# Altium integrated library FT601Q-B-T.IntLib: 1 symbol
Pins are listed as number, name and electrical type; pins without a type are passive.

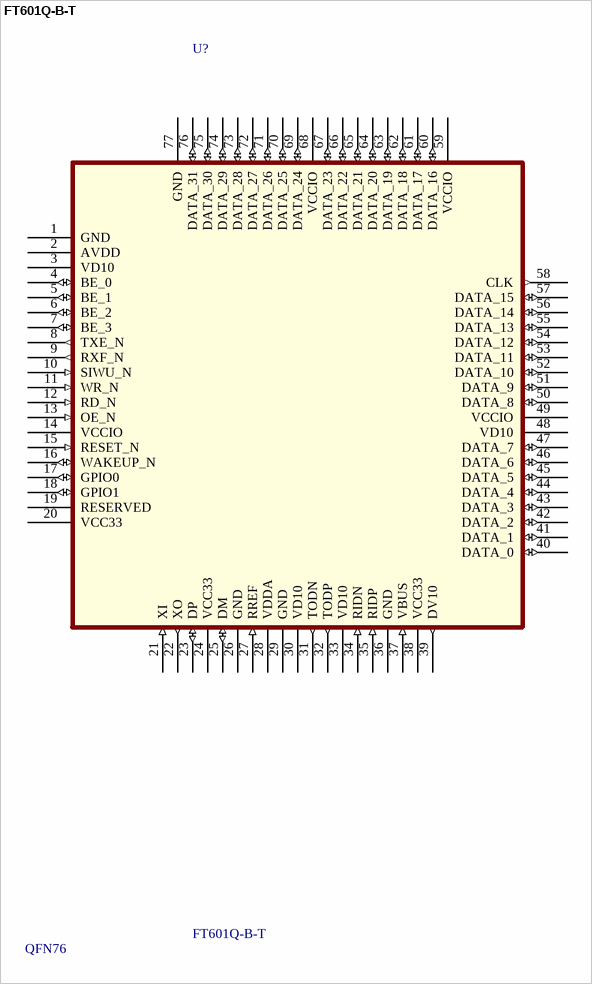
[diagram p0: symbol FT601Q-B-T]

## FT601Q-B-T
designator U?  Package Type:: QFN76
USB3.0 to 32bit FIFO Interface Bridge QFN76 Tray; Designer: Faheem Minhas; Company: PhasePhotonics; Data Created: 21-Janruary-2019; Data sheet Link: https://www.ftdichip.com/Support/Documents/DataSheets/ICs/DS_FT600Q-FT601Q%20IC%20Datasheet.pdf; Buying Link: https://uk.farnell.com/ftdi/ft601q-b-t/interface-bridge-usb3-0-to-fifo/dp/2748207?ost=FT601Q-B-T&krypto=%2Bo46xR1L3ajemxFu%2FmPcTNHTx8D7L9nNUVIECkvxkhOZpbouecPBthgwzqoaTTZTVuFe0pU8FARaKQxtxKXba%2BGhPr48jWFZB85DBJ1xakRmBa7tuyYQ%2FzYyjzqRoe3u&ddkey=https%3AInvalidCookie
footprint QFN40P900X900X100-77N
pins: 1 GND (power) "Ground.", 2 AVDD (power) "+1.0V power input for PLL.", 3 VD10 (power) "1.0V core voltage input.", 4 BE_0 (io) "Parallel FIFO bus byte enable I/O bit 0.", 5 BE_1 (io) "Parallel FIFO bus byte enable I/O bit 0.", 6 BE_2 (io) "Parallel FIFO bus byte enable I/O bit 0.", 7 BE_3 (io) "Parallel FIFO bus byte enable I/O bit 0.", 8 TXE_N (out) "245 Synchronous FIFO mode: Transmit FIFO empty output signal. Indicating min. 1 byte space available to write.  Only write to FIFO when its low. Multi-Channel: Valid Output signal (Optional).", 9 RXF_N (out) "245 Synchronous FIFO mode: Receive full FIFO output signal. Indicating min. 1 byte of data available to read.  Only read from FIFO when its low. Multi-Channel: Data receiver acknowledge output signal.", 10 SIWU_N (in) "Reserved. Add external pull up in normal operation.", 11 WR_N (in) "245 Synchronous FIFO mode: Write Enable input signal. Multi-Channel FIFO mode: Data Transaction Request input signal.*The signal is active low.", 12 RD_N (in) "245 Synchronous FIFO mode: Read Enable input signal. The signal is active low.", 13 OE_N (in) "245 Synchronous FIFO mode: Data Output Enable input signal. The signal is active low.", 14 VCCIO (power) "Power input for I/O block, supports +1.8/+2.5/+3.3V.", 15 RESET_N (in) "Chip Reset input.", 16 WAKEUP_N (io) "Suspend/Remote Wakeup pin by default Low when USB is active. High when USB is in suspend. Application can drive this pin low in USB suspend to generate a remote wakeup signal to the USB host.", 17 GPIO0 (io) "Configurable GPIO port0.", 18 GPIO1 (io) "Configurable GPIO port1.", 19 RESERVED (oc) "Do not connect.", 20 VCC33 (power) "3.3V power input for chip and internal LDO.", 21 XI (in) "Crystal input. (for internal oscillator).", 22 XO (out) "Crystal output. (for internal oscillator).", 23 DP (io) "High-speed USB differential transceiver (positive).", 24 VCC33 (power) "3.3V power input for chip and internal LDO.", 25 DM (io) "High-speed USB differential transceiver (negative).", 26 GND (power) "Ground.", 27 RREF (in) "PHY reference resistor input pin. Connect 1.6K Ω 1% resistor to ground, provides reference voltage to USB2 PHY.", 28 VDDA (power) "+3.3V power input for USB2.0 and USB3.0 PHYs.", 29 GND (power) "Ground.", 30 VD10 (power) "1.0V core voltage input.", 31 TODN (out) "Super Speed USB transmitter differential pair (negative).", 32 TODP (out) "Super Speed USB transmitter differential pair (positive).", 33 VD10 (power) "1.0V core voltage input.", 34 RIDN (in) "Super Speed USB receiver differential pair (negative).", 35 RIDP (in) "Super Speed USB receiver differential pair (positive).", 36 GND (power) "Ground.", 37 VBUS (in) "USB BUS power input.", 38 VCC33 (power) "3.3V power input for chip and internal LDO.", 39 DV10 (out) "1.0V power output from internal LDO. Connecting to VD10 and AVDD, with a 4.7uF cap to ground is recommended.", 40 DATA_0 (io) "Parallel FIFO bus data.", 41 DATA_1 (io) "Parallel FIFO bus data.", 42 DATA_2 (io) "Parallel FIFO bus data.", 43 DATA_3 (io) "Parallel FIFO bus data.", 44 DATA_4 (io) "Parallel FIFO bus data.", 45 DATA_5 (io) "Parallel FIFO bus data.", 46 DATA_6 (io) "Parallel FIFO bus data.", 47 DATA_7 (io) "Parallel FIFO bus data.", 48 VD10 (power) "1.0V core voltage input.", 49 VCCIO (power) "Power input for I/O block, supports +1.8/+2.5/+3.3V.", 50 DATA_8 (io) "Parallel FIFO bus data.", 51 DATA_9 (io) "Parallel FIFO bus data.", 52 DATA_10 (io) "Parallel FIFO bus data.", 53 DATA_11 (io) "Parallel FIFO bus data.", 54 DATA_12 (io) "Parallel FIFO bus data.", 55 DATA_13 (io) "Parallel FIFO bus data.", 56 DATA_14 (io) "Parallel FIFO bus data.", 57 DATA_15 (io) "Parallel FIFO bus data.", 58 CLK (out) "FIFO output clock to master. Configured as 100MHZ/66MHZ.", 59 VCCIO (power) "Power input for I/O block, supports +1.8/+2.5/+3.3V.", 60 DATA_16 (io) "Parallel FIFO bus data.", 61 DATA_17 (io) "Parallel FIFO bus data.", 62 DATA_18 (io) "Parallel FIFO bus data.", 63 DATA_19 (io) "Parallel FIFO bus data.", 64 DATA_20 (io) "Parallel FIFO bus data.", 65 DATA_21 (io) "Parallel FIFO bus data.", 66 DATA_22 (io) "Parallel FIFO bus data.", 67 DATA_23 (io) "Parallel FIFO bus data.", 68 VCCIO (power) "Power input for I/O block, supports +1.8/+2.5/+3.3V.", 69 DATA_24 (io) "Parallel FIFO bus data.", 70 DATA_25 (io) "Parallel FIFO bus data.", 71 DATA_26 (io) "Parallel FIFO bus data.", 72 DATA_27 (io) "Parallel FIFO bus data.", 73 DATA_28 (io) "Parallel FIFO bus data.", 74 DATA_29 (io) "Parallel FIFO bus data.", 75 DATA_30 (io) "Parallel FIFO bus data.", 76 DATA_31 (io) "Parallel FIFO bus data.", 77 GND (power) "Ground."